# Altium footprint library MiniMP3-16P.PcbLib: 1 footprints
Each footprint in its own frame and in the unit in brackets; x right, y up, seen from the top. Pads: shape width x height; smd on the part's side, far side on the other; paste and mask are expansions set on the pad; w line width, h text height; cw(c..) or ccw(c..) is an arc to the next point about the centre after c.
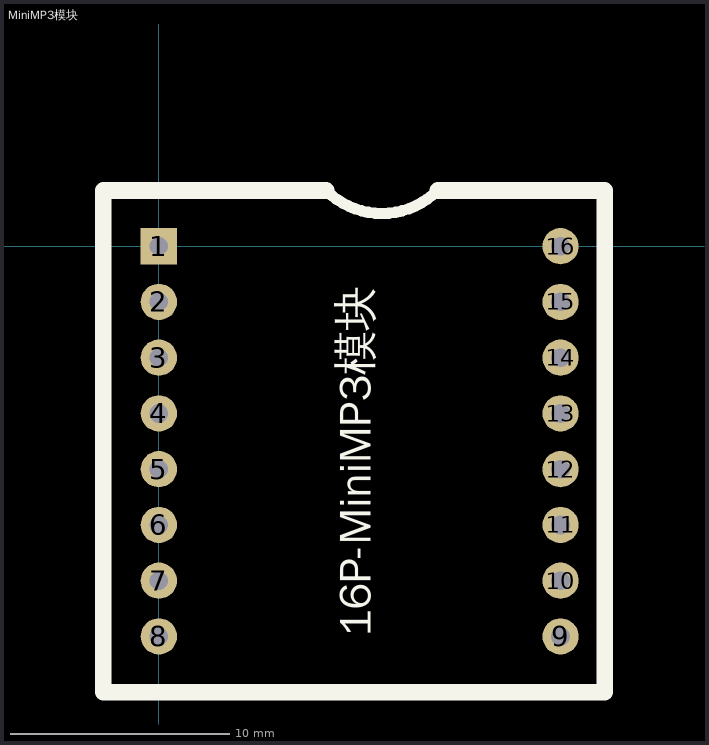
[diagram p0: the footprint, top view; thin cyan lines are the x and y axes]

## MiniMP3模块 [mil]
pads (16):
  rect 65x65 hole 33.46: 1(0,0)
  round 65 hole 33.46: 2(0,-100) 3(0,-200) 4(0,-300) 5(0,-400) 6(0,-500) 7(0,-600) 8(0,-700) 9(720.47,-700) 10(720.47,-600) 11(720.47,-500) 12(720.47,-400) 13(720.47,-300) 14(720.47,-200) 15(720.47,-100) 16(720.47,0)
Top Overlay:
  lines w20: 300,100 ccw(c400,200) 500,100
  lines w30: 300,100 -100,100 ; 500,100 800,100 800,-125 800,-575 800,-800 -100,-800 ; -100,-800 -100,100 ; -100,-800 -100,100
  text "16P-MiniMP3模块" at 400,-700 h100